# Altium integrated library FAN3100TSX.IntLib: 1 symbol
Pins are listed as number, name and electrical type; pins without a type are passive.

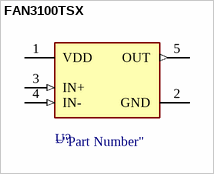
[diagram p0: symbol FAN3100TSX]

## FAN3100TSX
designator U?  (value not drawn)
footprint ON_Semi_527AH_0
pins: 1 VDD (power), 2 GND (power), 3 IN+ (in), 4 IN- (in), 5 OUT (out)